# Altium footprint library Inductor_THT.PcbLib: 269 footprints (part 7 of 17)
Each footprint in its own frame and in the unit in brackets; x right, y up, seen from the top. Pads: shape width x height; smd on the part's side, far side on the other; paste and mask are expansions set on the pad; w line width, h text height; cw(c..) or ccw(c..) is an arc to the next point about the centre after c.
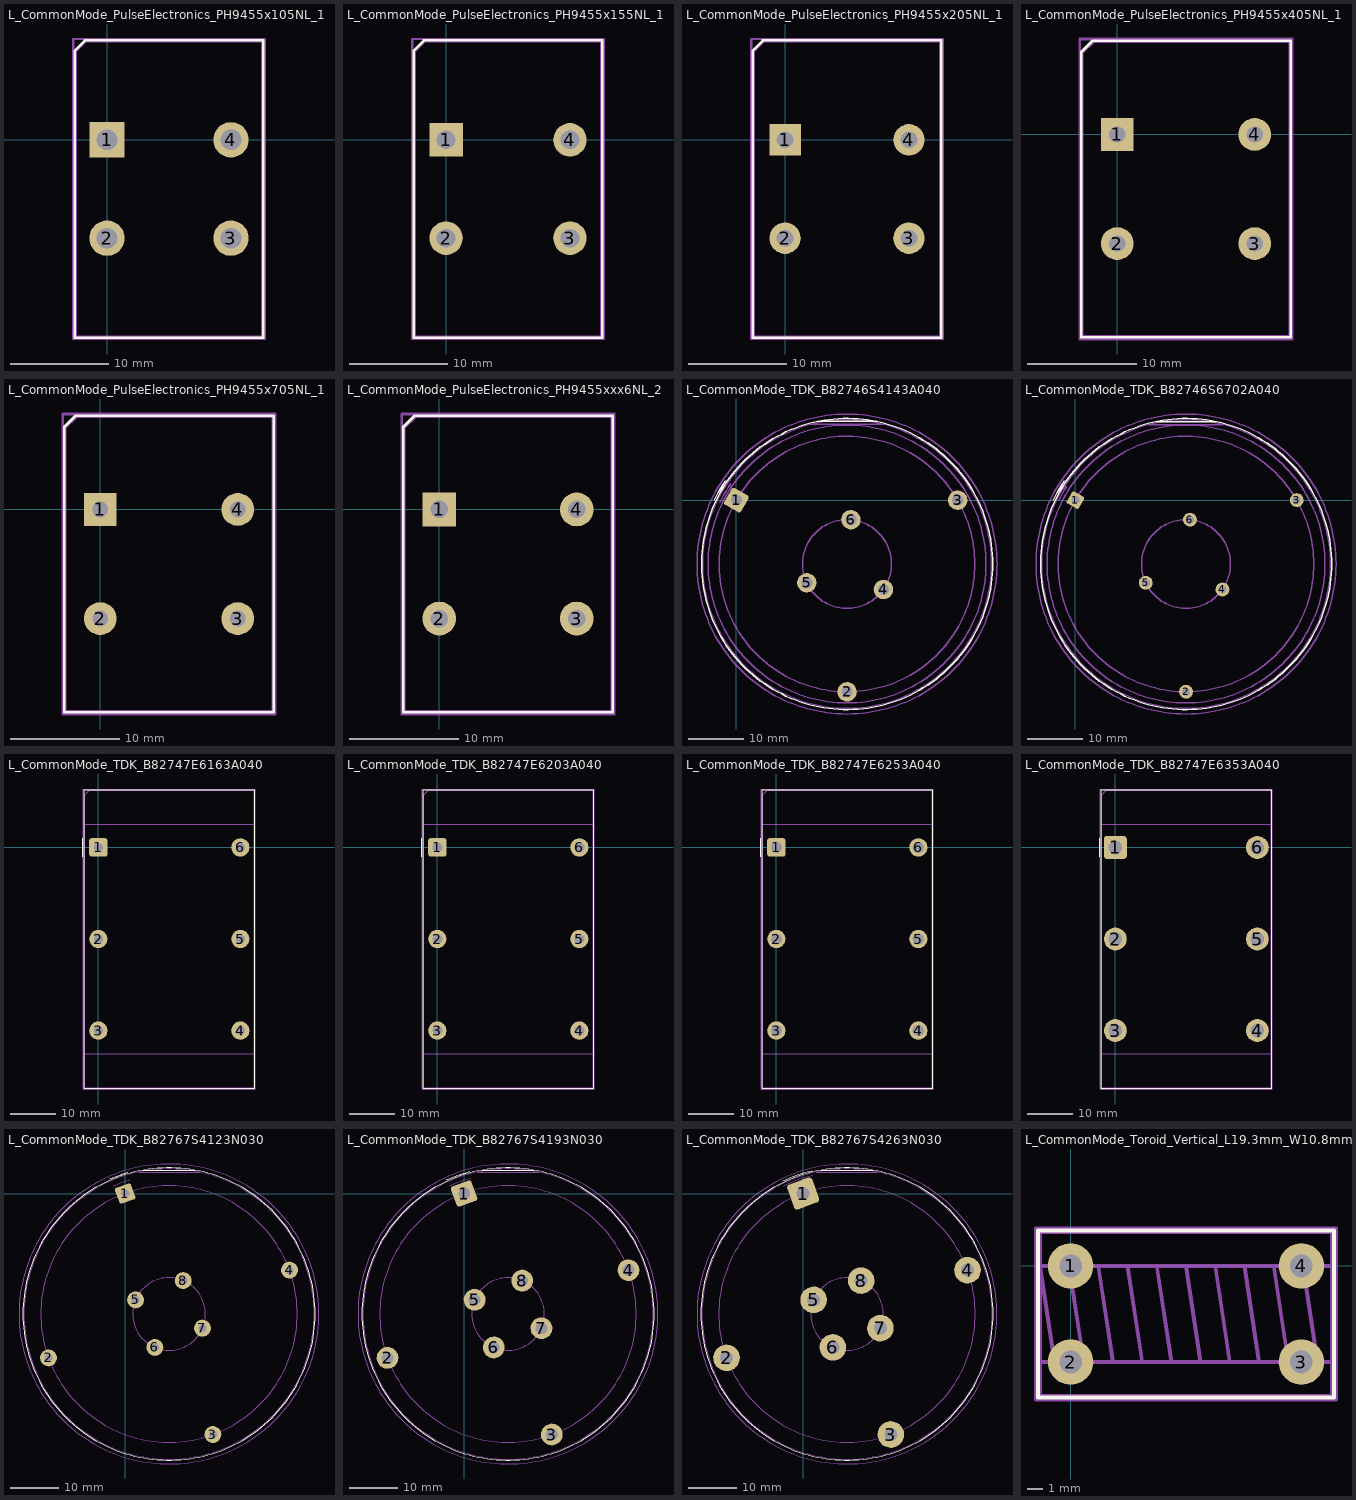
[diagram p6: the footprints below, top view; thin cyan lines are the x and y axes]

## L_CommonMode_PulseElectronics_PH9455x105NL_1 [mm]
pads (4):
  rect 3.6x3.6 hole 2.1: 1(0,0)
  round 3.6 hole 2.1: 2(0,-10) 3(12.6,-10) 4(12.6,0)
F.SilkS:
  lines w0.254: -3.3,-20.1 -3.3,9.05 -2.25,10.1 15.9,10.1 15.9,-20.1 -3.3,-20.1
Top Assembly:
  lines w0.254: -3.2,-20 -3.2,9 -2.2,10 15.8,10 15.8,-20 -3.2,-20
  text "'.Designator'" at 3.253,-7.34 h1
Top Courtyard:
  lines w0.254: -3.45,-20.25 -3.45,10.25 16.05,10.25 16.05,-20.25 -3.45,-20.25
Top Designator:
  text ".Designator" at -1.318,-5.508 h1.52

## L_CommonMode_PulseElectronics_PH9455x155NL_1 [mm]
pads (4):
  rect 3.4x3.4 hole 1.9: 1(0,0)
  round 3.4 hole 1.9: 2(0,-10) 3(12.6,-10) 4(12.6,0)
F.SilkS:
  lines w0.254: -3.3,-20.1 15.9,-20.1 15.9,10.1 -2.25,10.1 -3.3,9.05 -3.3,-20.1
Top Assembly:
  lines w0.254: -3.2,-20 15.8,-20 15.8,10 -2.2,10 -3.2,9 -3.2,-20
  text "'.Designator'" at 3.253,-7.34 h1
Top Courtyard:
  lines w0.254: -3.45,-20.25 16.05,-20.25 16.05,10.25 -3.45,10.25 -3.45,-20.25
Top Designator:
  text ".Designator" at -1.318,-5.508 h1.52

## L_CommonMode_PulseElectronics_PH9455x205NL_1 [mm]
pads (4):
  rect 3.2x3.2 hole 1.7: 1(0,0)
  round 3.2 hole 1.7: 2(0,-10) 3(12.6,-10) 4(12.6,0)
F.SilkS:
  lines w0.254: -3.3,-20.1 15.9,-20.1 15.9,10.1 -2.25,10.1 -3.3,9.05 -3.3,-20.1
Top Assembly:
  lines w0.254: -3.2,-20 15.8,-20 15.8,10 -2.2,10 -3.2,9 -3.2,-20
  text "'.Designator'" at 3.253,-7.34 h1
Top Courtyard:
  lines w0.254: -3.45,-20.25 16.05,-20.25 16.05,10.25 -3.45,10.25 -3.45,-20.25
Top Designator:
  text ".Designator" at -1.318,-5.508 h1.52

## L_CommonMode_PulseElectronics_PH9455x405NL_1 [mm]
pads (4):
  rect 3x3 hole 1.5: 1(0,0)
  round 3 hole 1.5: 2(0,-10) 3(12.6,-10) 4(12.6,0)
F.SilkS:
  lines w0.254: -3.3,-18.6 15.9,-18.6 15.9,8.6 -2.25,8.6 -3.3,7.55 -3.3,-18.6
Top Assembly:
  lines w0.254: -3.2,-18.5 15.8,-18.5 15.8,8.5 -2.2,8.5 -3.2,7.5 -3.2,-18.5
  text "'.Designator'" at 3.253,-7.34 h1
Top Courtyard:
  lines w0.254: -3.45,-18.75 16.05,-18.75 16.05,8.75 -3.45,8.75 -3.45,-18.75
Top Designator:
  text ".Designator" at -1.318,-5.508 h1.52

## L_CommonMode_PulseElectronics_PH9455x705NL_1 [mm]
pads (4):
  rect 3x3 hole 1.45: 1(0,0)
  round 3 hole 1.45: 2(0,-10) 3(12.6,-10) 4(12.6,0)
F.SilkS:
  lines w0.254: -3.3,-18.6 15.9,-18.6 15.9,8.6 -2.25,8.6 -3.3,7.55 -3.3,-18.6
Top Assembly:
  lines w0.254: -3.2,-18.5 15.8,-18.5 15.8,8.5 -2.2,8.5 -3.2,7.5 -3.2,-18.5
  text "'.Designator'" at 3.253,-7.34 h1
Top Courtyard:
  lines w0.254: -3.45,-18.75 16.05,-18.75 16.05,8.75 -3.45,8.75 -3.45,-18.75
Top Designator:
  text ".Designator" at -1.318,-5.508 h1.52

## L_CommonMode_PulseElectronics_PH9455xxx6NL_2 [mm]
pads (4):
  rect 3.1x3.1 hole 1.6: 1(0,0)
  round 3.1 hole 1.6: 2(0,-10) 3(12.6,-10) 4(12.6,0)
F.SilkS:
  lines w0.254: -3.3,-18.6 15.9,-18.6 15.9,8.6 -2.25,8.6 -3.3,7.55 -3.3,-18.6
Top Assembly:
  lines w0.254: -3.2,-18.5 15.8,-18.5 15.8,8.5 -2.2,8.5 -3.2,7.5 -3.2,-18.5
  text "'.Designator'" at 3.253,-7.34 h1
Top Courtyard:
  lines w0.254: -3.45,-18.75 16.05,-18.75 16.05,8.75 -3.45,8.75 -3.45,-18.75
Top Designator:
  text ".Designator" at -1.318,-5.508 h1.52

## L_CommonMode_TDK_B82746S4143A040 [mm]
pads (6):
  rrect25% 3.5x3.5 hole 2 rot 150: 1(0,0)
  round 3.5 hole 2: 2(19.919,-34.5) 3(39.837,0) 4(26.472,-16.089) 5(12.668,-14.881) 6(20.616,-3.53)
F.SilkS:
  circle w0.254: c19.919,-11.5 r26.2
  lines w0.254: -3.981,0 cw(c19.919,-11.5) -1.964,3.488 ; 14.61,14.15 25.31,14.15
Top Assembly:
  circle w0.254: c19.919,-11.5 r26
  circle w0.254: c19.919,-11.5 r25
  lines w0.254: -3,-0.5 cw(c19.919,-11.5) -0.975,2.982 ; 13.18,13.61 26.68,13.61
  text "'.Designator'" at 15.872,-12.34 h1
Top Courtyard:
  circle w0.254: c19.91,-11.5 r27
Top Designator:
  text ".Designator" at 12.292,-12.008 h1.52
Dwgs.User:
  circle w0.254: c19.919,-11.5 r23
  circle w0.254: c19.919,-11.5 r8

## L_CommonMode_TDK_B82746S6702A040 [mm]
pads (6):
  rrect25% 2.5x2.5 hole 1.45 rot 150: 1(0,0)
  round 2.5 hole 1.45: 2(19.919,-34.5) 3(39.837,0) 4(26.472,-16.089) 5(12.668,-14.881) 6(20.616,-3.53)
F.SilkS:
  circle w0.254: c19.919,-11.5 r26.2
  lines w0.254: -3.981,0 cw(c19.919,-11.5) -1.964,3.488 ; 14.58,14.14 25.28,14.14
Top Assembly:
  circle w0.254: c19.919,-11.5 r26
  circle w0.254: c19.919,-11.5 r25
  lines w0.254: -3,0 cw(c19.919,-11.5) -1.545,2.529 ; 13.15,13.6 26.65,13.6
  text "'.Designator'" at 15.872,-12.34 h1
Top Courtyard:
  circle w0.254: c19.91,-11.5 r27
Top Designator:
  text ".Designator" at 12.292,-12.008 h1.52
Dwgs.User:
  circle w0.254: c19.919,-11.5 r23
  circle w0.254: c19.919,-11.5 r8

## L_CommonMode_TDK_B82747E6163A040 [mm]
pads (6):
  rrect25% 4x4 hole 2: 1(0,0)
  round 4 hole 2: 2(0,-20) 3(0,-40) 4(31,-40) 5(31,-20) 6(31,0)
F.SilkS:
  lines w0.254: -3.4,-2 -3.4,2 ; -3.1,-52.6 34.1,-52.6 34.1,12.6 -3.1,12.6 -3.1,-52.6
Top Assembly:
  lines w0.254: -3,-52.5 34,-52.5 34,12.5 -2,12.5 -3,11.5 -3,-52.5
  text "'.Designator'" at 16.74,-24.047 h1
Top Courtyard:
  lines w0.254: -3.25,-52.75 34.25,-52.75 34.25,12.75 -3.25,12.75 -3.25,-52.75
Top Designator:
  text ".Designator" at 7.807,-20.508 h1.52
Cmts.User:
  lines w0.254: -3,-45 34,-45 34,5 -3,5 -3,-45

## L_CommonMode_TDK_B82747E6203A040 [mm]
pads (6):
  rrect25% 4x4 hole 2.2: 1(0,0)
  round 4 hole 2.2: 2(0,-20) 3(0,-40) 4(31,-40) 5(31,-20) 6(31,0)
F.SilkS:
  lines w0.254: -3.4,-2 -3.4,2 ; -3.1,-52.6 34.1,-52.6 34.1,12.6 -3.1,12.6 -3.1,-52.6
Top Assembly:
  lines w0.254: -3,-52.5 34,-52.5 34,12.5 -2,12.5 -3,11.5 -3,-52.5
  text "'.Designator'" at 16.74,-24.047 h1
Top Courtyard:
  lines w0.254: -3.25,-52.75 34.25,-52.75 34.25,12.75 -3.25,12.75 -3.25,-52.75
Top Designator:
  text ".Designator" at 7.807,-20.508 h1.52
Cmts.User:
  lines w0.254: -3,-45 34,-45 34,5 -3,5 -3,-45

## L_CommonMode_TDK_B82747E6253A040 [mm]
pads (6):
  rrect25% 4x4 hole 2.44: 1(0,0)
  round 4 hole 2.44: 2(0,-20) 3(0,-40) 4(31,-40) 5(31,-20) 6(31,0)
F.SilkS:
  lines w0.254: -3.4,-2 -3.4,2 ; -3.1,-52.6 34.1,-52.6 34.1,12.6 -3.1,12.6 -3.1,-52.6
Top Assembly:
  lines w0.254: -3,-52.5 34,-52.5 34,12.5 -2,12.5 -3,11.5 -3,-52.5
  text "'.Designator'" at 16.74,-24.047 h1
Top Courtyard:
  lines w0.254: -3.25,-52.75 34.25,-52.75 34.25,12.75 -3.25,12.75 -3.25,-52.75
Top Designator:
  text ".Designator" at 7.807,-20.508 h1.52
Cmts.User:
  lines w0.254: -3,-45 34,-45 34,5 -3,5 -3,-45

## L_CommonMode_TDK_B82747E6353A040 [mm]
pads (6):
  rrect25% 5x5 hole 3: 1(0,0)
  round 5 hole 3: 2(0,-20) 3(0,-40) 4(31,-40) 5(31,-20) 6(31,0)
F.SilkS:
  lines w0.254: -3.4,-2 -3.4,2 ; -3.1,-52.6 34.1,-52.6 34.1,12.6 -3.1,12.6 -3.1,-52.6
Top Assembly:
  lines w0.254: -3,-52.5 34,-52.5 34,12.5 -2,12.5 -3,11.5 -3,-52.5
  text "'.Designator'" at 16.74,-23.147 h1
Top Courtyard:
  lines w0.254: -3.25,-52.75 34.25,-52.75 34.25,12.75 -3.25,12.75 -3.25,-52.75
Top Designator:
  text ".Designator" at 7.807,-20.508 h1.52
Cmts.User:
  lines w0.254: -3,-45 34,-45 34,5 -3,5 -3,-45

## L_CommonMode_TDK_B82767S4123N030 [mm]
pads (8):
  rrect25% 3.5x3.5 hole 1.7 rot 20: 1(0,0)
  round 3.5 hole 1.7: 2(-15.838,-33.965) 3(18.127,-49.804) 4(33.965,-15.838) 5(2.16,-21.971) 6(6.133,-31.806) 7(15.967,-27.832) 8(11.994,-17.998)
F.SilkS:
  circle w0.254: c9.064,-24.902 r30.2
  lines w0.254: -3.236,2.898 cw(c9.064,-24.902) 0.552,4.282 ; 3.6,4.8 14.5,4.8
Top Assembly:
  circle w0.254: c9.064,-24.902 r30
  lines w0.254: -2.5,1.5 cw(c9.064,-24.902) 0.927,2.749 ; 2.7,4.4 15.5,4.4
  text "'.Designator'" at 5.017,-25.742 h1
Top Courtyard:
  circle w0.254: c9.06,-24.9 r31
Top Designator:
  text ".Designator" at 1.442,-25.408 h1.52
Dwgs.User:
  circle w0.254: c9.064,-24.902 r26.5
  circle w0.254: c9.064,-24.902 r7.5

## L_CommonMode_TDK_B82767S4193N030 [mm]
pads (8):
  rrect25% 4.5x4.5 hole 2.44 rot 20: 1(0,0)
  round 4.5 hole 2.44: 2(-15.838,-33.965) 3(18.127,-49.804) 4(33.965,-15.838) 5(2.16,-21.971) 6(6.133,-31.806) 7(15.967,-27.832) 8(11.994,-17.998)
F.SilkS:
  circle w0.254: c9.064,-24.902 r30.2
  lines w0.254: -3.736,2.698 cw(c9.063,-24.902) 1.11,4.464 ; 3.6,4.8 14.5,4.8
Top Assembly:
  circle w0.254: c9.064,-24.902 r30
  lines w0.254: -3,1.5 cw(c9.064,-24.902) 1.34,3.079 ; 2.7,4.4 15.5,4.4
  text "'.Designator'" at 5.017,-25.742 h1
Top Courtyard:
  circle w0.254: c9.06,-24.9 r31
Top Designator:
  text ".Designator" at 1.442,-25.408 h1.52
Dwgs.User:
  circle w0.254: c9.064,-24.902 r26.5
  circle w0.254: c9.064,-24.902 r7.5

## L_CommonMode_TDK_B82767S4263N030 [mm]
pads (8):
  rrect25% 5.5x5.5 hole 2.7 rot 20: 1(0,0)
  round 5.5 hole 2.7: 2(-15.838,-33.965) 3(18.127,-49.804) 4(33.965,-15.838) 5(2.16,-21.971) 6(6.133,-31.806) 7(15.967,-27.832) 8(11.994,-17.998)
F.SilkS:
  circle w0.254: c9.064,-24.902 r30.2
  lines w0.254: -4.236,2.498 cw(c9.064,-24.902) 1.677,4.646 ; 3.6,4.8 14.5,4.8
Top Assembly:
  circle w0.254: c9.064,-24.902 r30
  lines w0.254: -4,1.5 cw(c9.064,-24.902) 1.954,3.684 ; 2.7,4.4 15.5,4.4
  text "'.Designator'" at 5.017,-25.742 h1
Top Courtyard:
  circle w0.254: c9.06,-24.9 r31
Top Designator:
  text ".Designator" at 1.442,-25.408 h1.52
Dwgs.User:
  circle w0.254: c9.064,-24.902 r7.5
  circle w0.254: c9.064,-24.902 r26.5

## L_CommonMode_Toroid_Vertical_L19.3mm_W10.8mm_Px6.35mm_Py15.24mm_Bourns_8100 [mm]
pads (4):
  round 3 hole 1.5: 1(0,0) 2(0,-6.35) 3(15.24,-6.35) 4(15.24,0)
F.SilkS:
  lines w0.254: -2.152,-8.693 17.392,-8.693 17.392,2.343 -2.152,2.343 -2.152,-8.693
Top Assembly:
  lines w0.254: -1.067,-6.35 -2.032,0 ; -0.102,0 0.864,-6.35 ; 1.829,0 2.794,-6.35 ; 3.759,0 4.724,-6.35 ; 5.69,0 6.655,-6.35 ; 7.62,0 8.585,-6.35 ; 9.55,0 10.516,-6.35 ; 11.481,0 12.446,-6.35 ; 13.411,0 14.376,-6.35 ; 15.342,0 16.307,-6.35 ; -2.032,0 17.272,0 17.272,-6.35 -2.032,-6.35 -2.032,0 ; -2.032,-8.572 17.272,-8.572 17.272,2.222 -2.032,2.222 -2.032,-8.572
  text "'.Designator'" at -0.872,-0.84 h1
Top Courtyard:
  lines w0.254: -2.29,-8.83 17.53,-8.83 17.53,2.48 -2.29,2.48 -2.29,-8.83
Top Designator:
  text ".Designator" at 0.002,-3.683 h1.52
3D body "L_CommonMode_Toroid_Vertical_L19.3mm_W10.8mm_Px6.35mm_Py15.24mm_Bourns_8100.step": height 19.8, standoff -4.25, extent -2.032,-8.572 17.272,2.222